# EAGLE library part CAT24C256 (library on-semiconductor)
256Kb I2C CMOS Serial EEPROM The CAT24C256 is a 256Kb Serial CMOS EEPROM, internally organized as 32,768 words of 8 bits each. It features a 64−byte page write buffer and supports the Standard (100 kHz), Fast (400 kHz) and Fast−Plus (1 MHz) I2C protocol. Write operations can be inhibited by taking the WP pin High (this protects the entire memory). External address pins make it possible to address up to eight CAT24C256 devices on the same bus. On−Chip ECC (Error Correction Code) makes the device suitable for high reliability applications.*
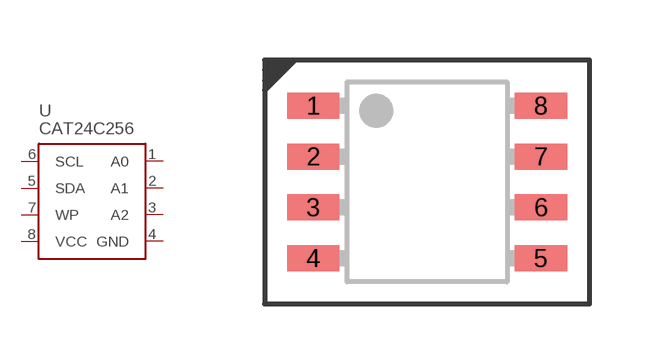
[diagram p0: symbol with the pads of P-PG-DSO-8; footprint P-PG-DSO-8]

Designator prefix U

## CAT24C256  [P-PG-DSO-8]
1  A0
2  A1
3  A2
4  GND
5  SDA
6  SCL
7  WP
8  VCC

## Footprint P-PG-DSO-8 (pad centres in mm)
smd 1.31 x 0.65: 1 -2.845,1.905; 2 -2.845,0.635; 3 -2.845,-0.635; 4 -2.845,-1.905; 5 2.845,-1.905; 6 2.845,-0.635; 7 2.845,0.635; 8 2.845,1.905